# Altium footprint library SW(MSS12C02LS-BB2.PcbLib: 1 footprints
Each footprint in its own frame and in the unit in brackets; x right, y up, seen from the top. Pads: shape width x height; smd on the part's side, far side on the other; paste and mask are expansions set on the pad; w line width, h text height; cw(c..) or ccw(c..) is an arc to the next point about the centre after c.
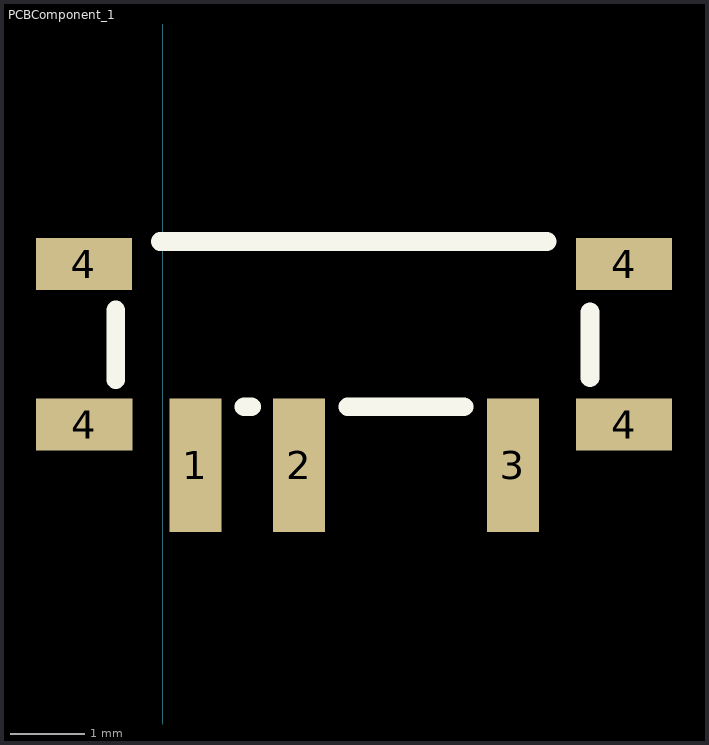
[diagram p0: the footprint, top view; thin cyan lines are the x and y axes]

## PCBComponent_1 [mm]
pads (7):
  rect 0.7x1.8 smd: 1(0.443,-8.932) 2(1.843,-8.932) 3(4.73,-8.932)
  rect 1.3x0.7 smd: 4(-1.06,-6.215) 4(-1.056,-8.382) 4(6.23,-8.382) 4(6.23,-6.215)
Top Overlay:
  lines w0.254: -0.63,-7.775 -0.63,-6.835 ; -0.03,-5.91 5.19,-5.91 ; 1.1,-8.14 1.2,-8.14 ; 2.5,-8.14 4.07,-8.14 ; 5.77,-7.75 5.77,-6.86